# Altium footprint library IND-0805.PcbLib: 1 footprints
Each footprint in its own frame and in the unit in brackets; x right, y up, seen from the top. Pads: shape width x height; smd on the part's side, far side on the other; paste and mask are expansions set on the pad; w line width, h text height; cw(c..) or ccw(c..) is an arc to the next point about the centre after c.
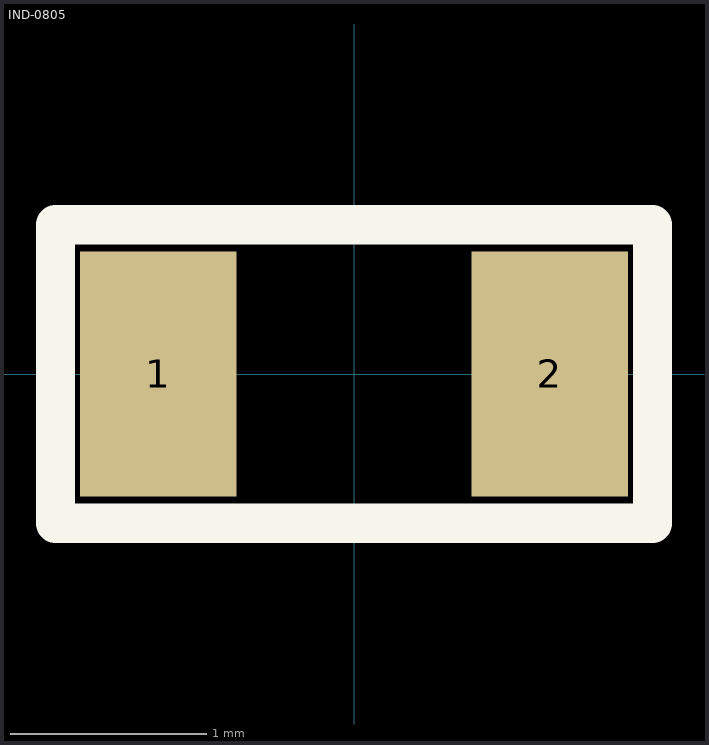
[diagram p0: the footprint, top view; thin cyan lines are the x and y axes]

## IND-0805 [mm]
height 0.55
pads (2):
  rect 0.8x1.25 smd mask+0.015: 1(-1,0) 2(1,0)
Top Overlay:
  lines w0.2: -1.524,-0.762 -1.524,0.762 1.524,0.762 1.524,-0.762 -1.524,-0.762
Top Assembly:
  lines w0.1: -1.524,-0.762 -1.524,0.762 1.524,0.762 1.524,-0.762 -1.524,-0.762
  text "'.Designator'" at -0.975,-0.35 h0.7
3D body "User Library-User Library-Chip InductorINDC2012X130N.step": height 1.2, standoff 0, extent -1,-0.65 1,0.65